# EAGLE library part MACHXO2_1200 (library ugly_fpga)
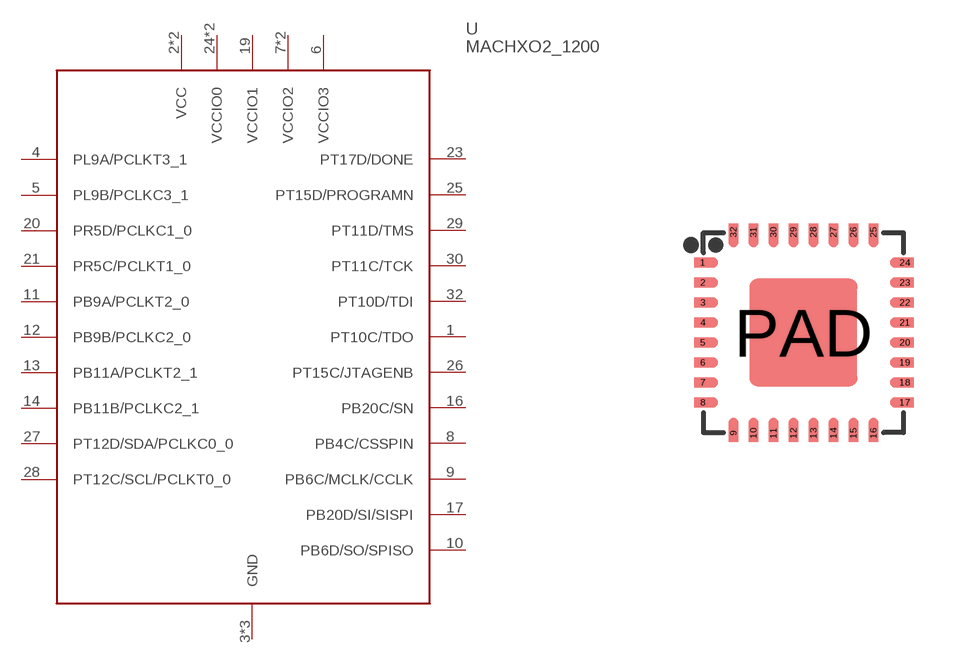
[diagram p0: symbol with the pads of QFN32_5X5; footprint QFN32_5X5]

Designator prefix -

## MACHXO2_1200  [QFN32_5X5]
1  PT10C/TDO
2  VCC
3  GND
4  PL9A/PCLKT3_1
5  PL9B/PCLKC3_1
6  VCCIO3
7  VCCIO2
8  PB4C/CSSPIN
9  PB6C/MCLK/CCLK
10  PB6D/SO/SPISO
11  PB9A/PCLKT2_0
12  PB9B/PCLKC2_0
13  PB11A/PCLKT2_1
14  PB11B/PCLKC2_1
15  VCCIO2
16  PB20C/SN
17  PB20D/SI/SISPI
18  VCC
19  VCCIO1
20  PR5D/PCLKC1_0
21  PR5C/PCLKT1_0
22  GND
23  PT17D/DONE
24  VCCIO0
25  PT15D/PROGRAMN
26  PT15C/JTAGENB
27  PT12D/SDA/PCLKC0_0
28  PT12C/SCL/PCLKT0_0
29  PT11D/TMS
30  PT11C/TCK
31  VCCIO0
32  PT10D/TDI
PAD  GND

## Footprint QFN32_5X5 (pad centres in mm)
smd 0.438 x 0.24: 1 -2.513,1.75; 2 -2.513,1.25; 3 -2.513,0.75; 4 -2.513,0.25; 5 -2.513,-0.25; 6 -2.513,-0.75; 7 -2.513,-1.25; 8 -2.513,-1.75; 17 2.538,-1.75; 18 2.538,-1.25; 19 2.538,-0.75; 20 2.538,-0.25; 21 2.538,0.25; 22 2.538,0.75; 23 2.538,1.25; 24 2.538,1.75
smd 0.24 x 0.438: 9 -1.75,-2.513; 10 -1.25,-2.513; 11 -0.75,-2.513; 12 -0.25,-2.513; 13 0.25,-2.513; 14 0.75,-2.513; 15 1.25,-2.513; 16 1.75,-2.513; 25 1.75,2.513; 26 1.25,2.513; 27 0.75,2.513; 28 0.25,2.513; 29 -0.25,2.513; 30 -0.75,2.513; 31 -1.25,2.513; 32 -1.75,2.513
smd 2.7 x 2.7: PAD 0,0